# Altium schematic symbol library pico-clasp-2.SchLib: 1 symbol
Pins are listed as number, name and electrical type; pins without a type are passive.

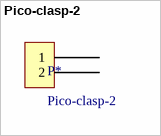
[diagram p0: symbol Pico-clasp-2]

## Pico-clasp-2
designator P*
2 pins
footprint 2 pins pico-clasp
pins: 1, 1 2